# Altium footprint library FUSE_3544-2.PcbLib: 1 footprints
Each footprint in its own frame and in the unit in brackets; x right, y up, seen from the top. Pads: shape width x height; smd on the part's side, far side on the other; paste and mask are expansions set on the pad; w line width, h text height; cw(c..) or ccw(c..) is an arc to the next point about the centre after c.
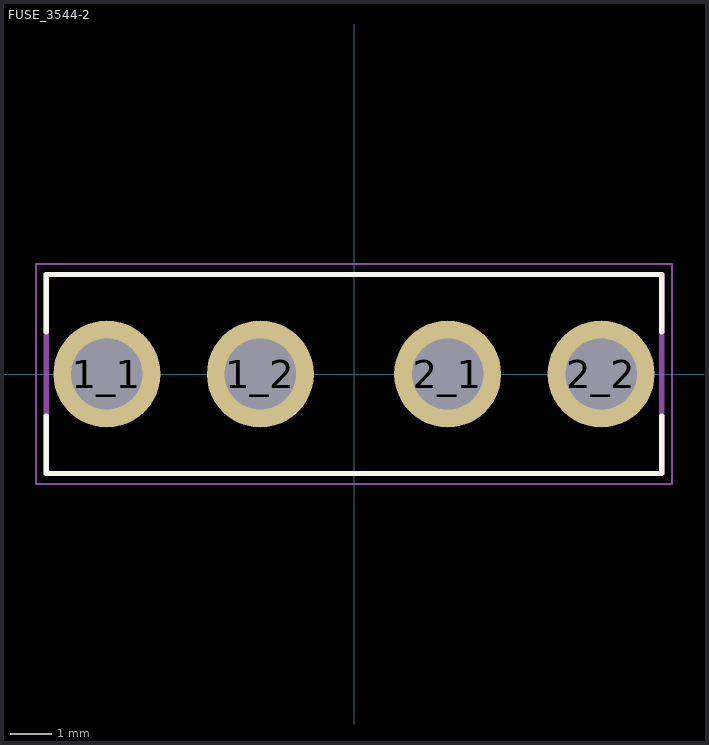
[diagram p0: the footprint, top view; thin cyan lines are the x and y axes]

## FUSE_3544-2 [mm]
height 9.02
pads (4):
  round 2.55 hole 1.7: 1_1(-5.895,0) 1_2(-2.235,0) 2_1(2.235,0) 2_2(5.895,0)
Top Overlay:
  lines w0.127: -7.34,-1 -7.34,-2.375 7.34,-2.375 7.34,-1 ; -7.34,1 -7.34,2.375 7.34,2.375 7.34,1
Assembly Top:
  lines w0.127: -7.34,-2.375 -7.34,2.375 7.34,2.375 7.34,-2.375 -7.34,-2.375
Courtyard Top:
  lines w0.05: -7.59,-2.625 -7.59,2.625 7.59,2.625 7.59,-2.625 -7.59,-2.625
3D body "step_temp.STEP": height 8.72, standoff -2.46, extent -7.349,-2.482 7.332,2.268